# Altium integrated library ZXMP3A13FTA.IntLib: 1 symbol
Pins are listed as number, name and electrical type; pins without a type are passive.

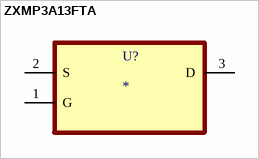
[diagram p0: symbol ZXMP3A13FTA]

## ZXMP3A13FTA
designator U?
P-Channel 30 V 1.4A (Ta) 625mW (Ta) Surface Mount SOT-23-3; MF: Diodes Inc.; MP: ZXMP3A13FTA; Package: SOT-23-3 Diodes Inc.; Purchase-URL: https://pricing.snapeda.com/search/part/ZXMP3A13FTA/?ref=eda; Value: *; SnapEDA_Link: https://www.snapeda.com/parts/ZXMP3A13FTA/Diodes+Inc./view-part/?ref=snap; Price: None; Check_prices: https://www.snapeda.com/parts/ZXMP3A13FTA/Diodes+Inc./view-part/?ref=eda; Availability: In Stock
footprint SOT95P237X112-3N
pins: 1 G, 2 S, 3 D